# Altium footprint library LCD.PcbLib: 11 footprints
Each footprint in its own frame and in the unit in brackets; x right, y up, seen from the top. Pads: shape width x height; smd on the part's side, far side on the other; paste and mask are expansions set on the pad; w line width, h text height; cw(c..) or ccw(c..) is an arc to the next point about the centre after c.
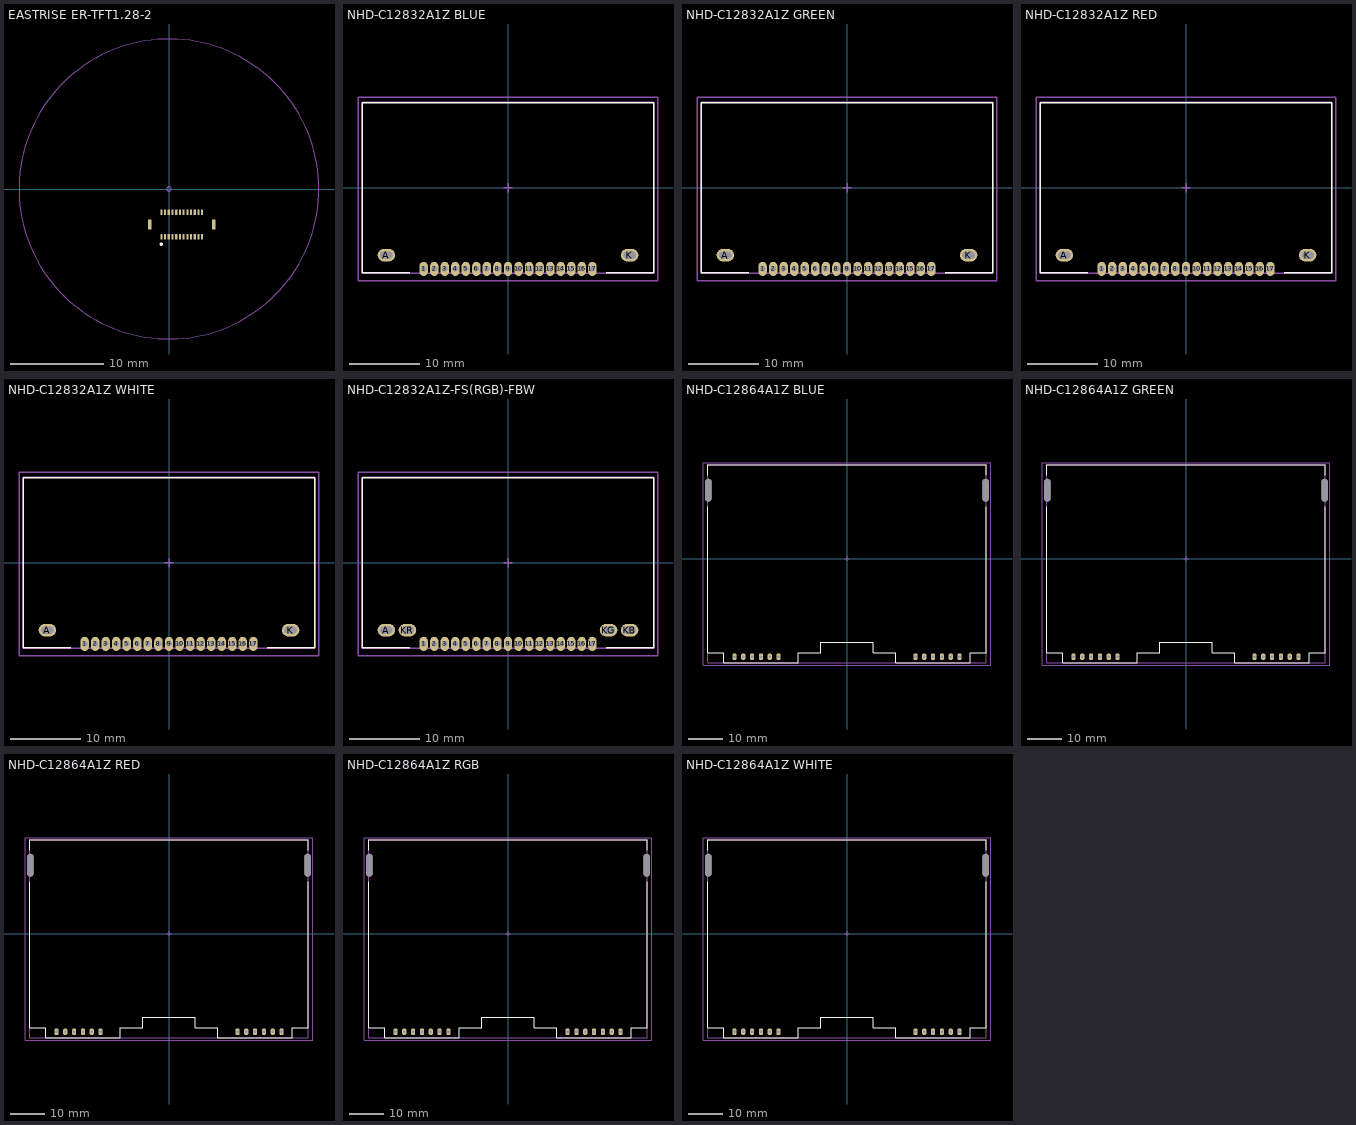
[diagram p0: the footprints below, top view; thin cyan lines are the x and y axes]

## EASTRISE ER-TFT1.28-2 [mm] "EASTRISE ER-TFT 1.3\" Round TFT Display"
pads (26):
  rect 0.38x1.1 smd: 0(-2.065,-3.825) 0(4.815,-3.825)
  rect 0.23x0.63 smd: 1(-0.825,-5.15) 2(-0.425,-5.15) 3(-0.025,-5.15) 4(0.375,-5.15) 5(0.775,-5.15) 6(1.175,-5.15) 7(1.575,-5.15) 8(1.975,-5.15) 9(2.375,-5.15) 10(2.775,-5.15) 11(3.175,-5.15) 12(3.575,-5.15) 13(3.575,-2.5) 14(3.175,-2.5) 15(2.775,-2.5) 16(2.375,-2.5) 17(1.975,-2.5) 18(1.575,-2.5) 19(1.175,-2.5) 20(0.775,-2.5) 21(0.375,-2.5) 22(-0.025,-2.5) 23(-0.425,-2.5) 24(-0.825,-2.5)
Top Overlay:
  circle w0.2: c-0.825,-5.95 r0.075
Mechanical 1:
  circle w0.1: c0,0 r16.17
  circle w0.1: c0,0 r0.237
  text "DISPLAY CENTER" at -1.85,0.3 h1
  text "ACTIVE AREA" at -3,11.5 h1
3D body "displayAssembly.step": height 3.07, standoff 0.21, extent -17.75,-21.18 17.75,17.75
3D body "DF37NB-24DS-04V.stp": height 0.96, standoff -0.02, extent -2.135,-5.315 4.885,-2.335

## NHD-C12832A1Z BLUE [mm]
height 6.4
pads (19):
  oval 1.2x2 hole 0.8: 1(-12,-11.55) 2(-10.5,-11.55) 3(-9,-11.55) 4(-7.5,-11.55) 5(-6,-11.55) 6(-4.5,-11.55) 7(-3,-11.55) 8(-1.5,-11.55) 9(0,-11.55) 10(1.5,-11.55) 11(3,-11.55) 12(4.5,-11.55) 13(6,-11.55) 14(7.5,-11.55) 15(9,-11.55) 16(10.5,-11.55) 17(12,-11.55)
  oval 2.5x1.75 hole 1 slot 1.75 at 0 deg: A(-17.3,-9.6) K(17.3,-9.6)
Top Overlay:
  lines w0.2: -14,-12.1 -20.7,-12.1 -20.7,12.1 0,12.1 20.7,12.1 20.7,-12.1 14,-12.1
Mechanical 13:
  lines w0.2: -20.7,-12.15 20.7,-12.15 20.7,12.15 -20.7,12.15 -20.7,-12.15
Mechanical 15:
  lines w0.2: -0.635,0 0.635,0 ; 0,-0.635 0,0.635 ; -21.336,-13.208 -21.336,12.827 21.336,12.827 21.336,-13.208 -21.336,-13.208
3D body "NHD-C12832A1Z-FSB.STEP": height 4.9, standoff -2.1, extent -20.7,-12.15 20.7,12.15

## NHD-C12832A1Z GREEN [mm]
height 6.4
pads (19):
  oval 1.2x2 hole 0.8: 1(-12,-11.55) 2(-10.5,-11.55) 3(-9,-11.55) 4(-7.5,-11.55) 5(-6,-11.55) 6(-4.5,-11.55) 7(-3,-11.55) 8(-1.5,-11.55) 9(0,-11.55) 10(1.5,-11.55) 11(3,-11.55) 12(4.5,-11.55) 13(6,-11.55) 14(7.5,-11.55) 15(9,-11.55) 16(10.5,-11.55) 17(12,-11.55)
  oval 2.5x1.75 hole 1 slot 1.75 at 0 deg: A(-17.3,-9.6) K(17.3,-9.6)
Top Overlay:
  lines w0.2: -14,-12.1 -20.7,-12.1 -20.7,12.1 0,12.1 20.7,12.1 20.7,-12.1 14,-12.1
Mechanical 13:
  lines w0.2: -20.7,-12.15 -20.7,12.15 20.7,12.15 20.7,-12.15 -20.7,-12.15
Mechanical 15:
  lines w0.2: -0.635,0 0.635,0 ; 0,-0.635 0,0.635 ; -21.336,-13.208 21.336,-13.208 21.336,12.827 -21.336,12.827 -21.336,-13.208
3D body "NHD-C12832A1Z-FSG.STEP": height 4.9, standoff -2.1, extent -20.7,-12.15 20.7,12.15

## NHD-C12832A1Z RED [mm]
height 6.4
pads (19):
  oval 1.2x2 hole 0.8: 1(-12,-11.55) 2(-10.5,-11.55) 3(-9,-11.55) 4(-7.5,-11.55) 5(-6,-11.55) 6(-4.5,-11.55) 7(-3,-11.55) 8(-1.5,-11.55) 9(0,-11.55) 10(1.5,-11.55) 11(3,-11.55) 12(4.5,-11.55) 13(6,-11.55) 14(7.5,-11.55) 15(9,-11.55) 16(10.5,-11.55) 17(12,-11.55)
  oval 2.5x1.75 hole 1 slot 1.75 at 0 deg: A(-17.3,-9.6) K(17.3,-9.6)
Top Overlay:
  lines w0.2: -14,-12.1 -20.7,-12.1 -20.7,12.1 0,12.1 20.7,12.1 20.7,-12.1 14,-12.1
Mechanical 13:
  lines w0.2: -20.7,-12.15 -20.7,12.15 20.7,12.15 20.7,-12.15 -20.7,-12.15
Mechanical 15:
  lines w0.2: -0.635,0 0.635,0 ; 0,-0.635 0,0.635 ; -21.336,-13.208 21.336,-13.208 21.336,12.827 -21.336,12.827 -21.336,-13.208
3D body "NHD-C12832A1Z-FSR.STEP": height 4.9, standoff -2.1, extent -20.7,-12.15 20.7,12.15

## NHD-C12832A1Z WHITE [mm]
height 6.4
pads (19):
  oval 1.2x2 hole 0.8: 1(-12,-11.55) 2(-10.5,-11.55) 3(-9,-11.55) 4(-7.5,-11.55) 5(-6,-11.55) 6(-4.5,-11.55) 7(-3,-11.55) 8(-1.5,-11.55) 9(0,-11.55) 10(1.5,-11.55) 11(3,-11.55) 12(4.5,-11.55) 13(6,-11.55) 14(7.5,-11.55) 15(9,-11.55) 16(10.5,-11.55) 17(12,-11.55)
  oval 2.5x1.75 hole 1 slot 1.75 at 0 deg: A(-17.3,-9.6) K(17.3,-9.6)
Top Overlay:
  lines w0.2: -14,-12.1 -20.7,-12.1 -20.7,12.1 0,12.1 20.7,12.1 20.7,-12.1 14,-12.1
Mechanical 13:
  lines w0.2: -20.7,-12.15 -20.7,12.15 20.7,12.15 20.7,-12.15 -20.7,-12.15
Mechanical 15:
  lines w0.2: -0.635,0 0.635,0 ; 0,-0.635 0,0.635 ; -21.336,-13.208 21.336,-13.208 21.336,12.827 -21.336,12.827 -21.336,-13.208
3D body "NHD-C12832A1Z-FSW.STEP": height 4.9, standoff -2.1, extent -20.7,-12.15 20.7,12.15

## NHD-C12832A1Z-FS(RGB)-FBW [mm]
height 6.4
pads (21):
  oval 1.2x2 hole 0.8: 1(-12,-11.55) 2(-10.5,-11.55) 3(-9,-11.55) 4(-7.5,-11.55) 5(-6,-11.55) 6(-4.5,-11.55) 7(-3,-11.55) 8(-1.5,-11.55) 9(0,-11.55) 10(1.5,-11.55) 11(3,-11.55) 12(4.5,-11.55) 13(6,-11.55) 14(7.5,-11.55) 15(9,-11.55) 16(10.5,-11.55) 17(12,-11.55)
  oval 2.5x1.75 hole 1 slot 1.75 at 0 deg: A(-17.3,-9.6) KB(17.3,-9.6) KG(14.3,-9.6) KR(-14.3,-9.6)
Top Overlay:
  lines w0.2: -14,-12.1 -20.7,-12.1 -20.7,12.1 0,12.1 20.7,12.1 20.7,-12.1 14,-12.1
Mechanical 13:
  lines w0.2: -20.7,-12.15 20.7,-12.15 20.7,12.15 -20.7,12.15 -20.7,-12.15
Mechanical 15:
  lines w0.2: -0.635,0 0.635,0 ; 0,-0.635 0,0.635 ; -21.336,-13.208 -21.336,12.827 21.336,12.827 21.336,-13.208 -21.336,-13.208
3D body "NHD-C12832A1Z-FSRGB.STEP": height 4.9, standoff -2.1, extent -20.7,-12.15 20.7,12.15

## NHD-C12864A1Z BLUE [mm]
height 7
pads (14):
  oval 1.2x2 hole 0.8: 1(-32.38,-28.2) 2(-29.84,-28.2) 3(-27.3,-28.2) 4(-24.76,-28.2) 5(-22.22,-28.2) 6(-19.68,-28.2) 7(19.68,-28.2) 8(22.22,-28.2) 9(24.76,-28.2) 10(27.3,-28.2) 11(29.84,-28.2) 12(32.38,-28.2)
  oval 1.8x6.5 hole 1.8 slot 6.5 at 90 deg unplated: M(-39.9,19.7) M(39.9,19.7)
Top Overlay:
  lines w0.2: -40,15 -40,-27 -35.5,-27 -35.5,-30 -14,-30 -14,-27 -7.5,-27 -7.5,-24 0,-24 7.5,-24 7.5,-27 14,-27 14,-30 35.5,-30 35.5,-27 40,-27 40,15 ; -40,24 -40,27 0,27 40,27 40,24
Mechanical 13:
  lines w0.2: -40,-30 -40,27 40,27 40,-30 -40,-30
Mechanical 15:
  lines w0.2: -0.635,0 0.635,0 ; 0,-0.635 0,0.635 ; -41.402,-30.607 -41.402,27.559 41.402,27.559 41.402,-30.607 -41.402,-30.607
3D body "NHD-C12864A1Z BLUE.STEP": height 7, standoff -6.6, extent -40,-30 40,27

## NHD-C12864A1Z GREEN [mm]
height 7
pads (14):
  oval 1.2x2 hole 0.8: 1(-32.38,-28.2) 2(-29.84,-28.2) 3(-27.3,-28.2) 4(-24.76,-28.2) 5(-22.22,-28.2) 6(-19.68,-28.2) 7(19.68,-28.2) 8(22.22,-28.2) 9(24.76,-28.2) 10(27.3,-28.2) 11(29.84,-28.2) 12(32.38,-28.2)
  oval 1.8x6.5 hole 1.8 slot 6.5 at 90 deg unplated: M(-39.9,19.7) M(39.9,19.7)
Top Overlay:
  lines w0.2: -40,15 -40,-27 -35.5,-27 -35.5,-30 -14,-30 -14,-27 -7.5,-27 -7.5,-24 0,-24 7.5,-24 7.5,-27 14,-27 14,-30 35.5,-30 35.5,-27 40,-27 40,15 ; -40,24 -40,27 0,27 40,27 40,24
Mechanical 13:
  lines w0.2: -40,-30 -40,27 40,27 40,-30 -40,-30
Mechanical 15:
  lines w0.2: -0.635,0 0.635,0 ; 0,-0.635 0,0.635 ; -41.402,-30.607 -41.402,27.559 41.402,27.559 41.402,-30.607 -41.402,-30.607
3D body "NHD-C12864A1Z GREEN.STEP": height 7, standoff -6.6, extent -40,-30 40,27

## NHD-C12864A1Z RED [mm]
height 7
pads (14):
  oval 1.2x2 hole 0.8: 1(-32.38,-28.2) 2(-29.84,-28.2) 3(-27.3,-28.2) 4(-24.76,-28.2) 5(-22.22,-28.2) 6(-19.68,-28.2) 7(19.68,-28.2) 8(22.22,-28.2) 9(24.76,-28.2) 10(27.3,-28.2) 11(29.84,-28.2) 12(32.38,-28.2)
  oval 1.8x6.5 hole 1.8 slot 6.5 at 90 deg unplated: M(-39.9,19.7) M(39.9,19.7)
Top Overlay:
  lines w0.2: -40,15 -40,-27 -35.5,-27 -35.5,-30 -14,-30 -14,-27 -7.5,-27 -7.5,-24 0,-24 7.5,-24 7.5,-27 14,-27 14,-30 35.5,-30 35.5,-27 40,-27 40,15 ; -40,24 -40,27 0,27 40,27 40,24
Mechanical 13:
  lines w0.2: -40,-30 40,-30 40,27 -40,27 -40,-30
Mechanical 15:
  lines w0.2: -0.635,0 0.635,0 ; 0,-0.635 0,0.635 ; -41.402,-30.607 41.402,-30.607 41.402,27.559 -41.402,27.559 -41.402,-30.607
3D body "NHD-C12864A1Z RED.STEP": height 7, standoff -6.6, extent -40,-30 40,27

## NHD-C12864A1Z RGB [mm]
height 7
pads (16):
  oval 1.2x2 hole 0.8: 1(-32.38,-28.2) 2(-29.84,-28.2) 3(-27.3,-28.2) 4(-24.76,-28.2) 5(-22.22,-28.2) 6(-19.68,-28.2) 7(-17.14,-28.2) 8(17.14,-28.2) 9(19.68,-28.2) 10(22.22,-28.2) 11(24.76,-28.2) 12(27.3,-28.2) 13(29.84,-28.2) 14(32.38,-28.2)
  oval 1.8x6.5 hole 1.8 slot 6.5 at 90 deg unplated: M(-39.9,19.7) M(39.9,19.7)
Top Overlay:
  lines w0.2: -40,15 -40,-27 -35.5,-27 -35.5,-30 -14,-30 -14,-27 -7.5,-27 -7.5,-24 0,-24 7.5,-24 7.5,-27 14,-27 14,-30 35.5,-30 35.5,-27 40,-27 40,15 ; -40,24 -40,27 0,27 40,27 40,24
Mechanical 13:
  lines w0.2: -40,-30 40,-30 40,27 -40,27 -40,-30
Mechanical 15:
  lines w0.2: -0.635,0 0.635,0 ; 0,-0.635 0,0.635 ; -41.402,-30.607 41.402,-30.607 41.402,27.559 -41.402,27.559 -41.402,-30.607
3D body "NHD-C12864A1Z RGB.STEP": height 7, standoff -6.6, extent -40,-30 40,27

## NHD-C12864A1Z WHITE [mm]
height 7
pads (14):
  oval 1.2x2 hole 0.8: 1(-32.38,-28.2) 2(-29.84,-28.2) 3(-27.3,-28.2) 4(-24.76,-28.2) 5(-22.22,-28.2) 6(-19.68,-28.2) 7(19.68,-28.2) 8(22.22,-28.2) 9(24.76,-28.2) 10(27.3,-28.2) 11(29.84,-28.2) 12(32.38,-28.2)
  oval 1.8x6.5 hole 1.8 slot 6.5 at 90 deg unplated: M(-39.9,19.7) M(39.9,19.7)
Top Overlay:
  lines w0.2: -40,15 -40,-27 -35.5,-27 -35.5,-30 -14,-30 -14,-27 -7.5,-27 -7.5,-24 0,-24 7.5,-24 7.5,-27 14,-27 14,-30 35.5,-30 35.5,-27 40,-27 40,15 ; -40,24 -40,27 0,27 40,27 40,24
Mechanical 13:
  lines w0.2: -40,-30 40,-30 40,27 -40,27 -40,-30
Mechanical 15:
  lines w0.2: -0.635,0 0.635,0 ; 0,-0.635 0,0.635 ; -41.402,-30.607 41.402,-30.607 41.402,27.559 -41.402,27.559 -41.402,-30.607
3D body "NHD-C12864A1Z WHITE.STEP": height 7, standoff -6.6, extent -40,-30 40,27